# EAGLE library part 2516-AIR (library chuni)
3M (TM) Pak 100 4-Wall Header Source: 3M
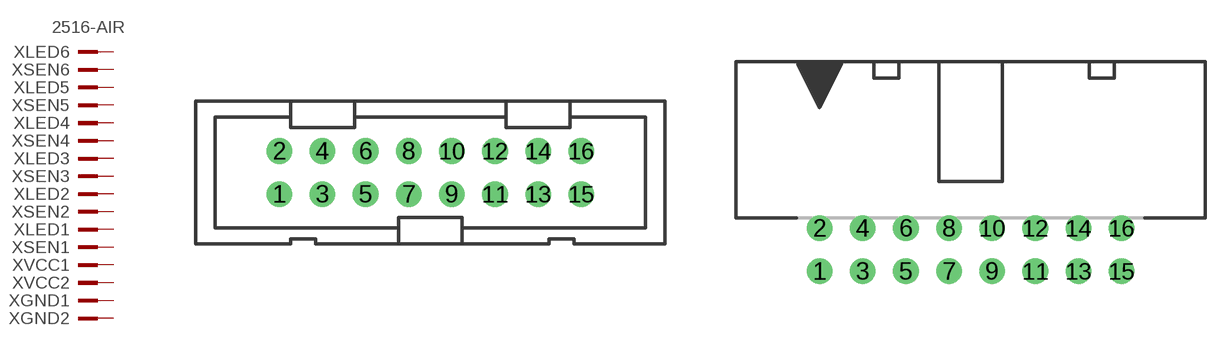
[diagram p1: symbol with the pads of PAK100/2500-16; footprints PAK100/2500-16, PAK100/2500-5-16]

Designator prefix X; gates LED6=PINV SEN6=PIN LED5=PIN SEN5=PIN LED4=PIN SEN4=PIN LED3=PIN SEN3=PIN LED2=PIN SEN2=PIN LED1=PIN SEN1=PIN VCC1=PIN VCC2=PIN GND1=PIN GND2=PIN

## 2516-AIR (OC_FARNELL: unknown; OC_NEWARK: unknown)  [PAK100/2500-16]
1  LED6:KL  pas
2  SEN6:KL  pas
3  LED5:KL  pas
4  SEN5:KL  pas
5  LED4:KL  pas
6  SEN4:KL  pas
7  LED3:KL  pas
8  SEN3:KL  pas
9  LED2:KL  pas
10  SEN2:KL  pas
11  LED1:KL  pas
12  SEN1:KL  pas
13  VCC1:KL  pas
14  VCC2:KL  pas
15  GND1:KL  pas
16  GND2:KL  pas

## 2516-AIR5 (MPN: D2516-5002-AR; OC_FARNELL: 9838376; OC_NEWARK: 12P7055)  [PAK100/2500-5-16]
Pads as for PAK100/2500-16

## Footprint PAK100/2500-16 (pad centres in mm)
3M (TM) Pak 100 4-Wall Header Straight Source: 3M
drill 1 pad 1.422: 1 -8.89,-1.27; 2 -8.89,1.27; 3 -6.35,-1.27; 4 -6.35,1.27; 5 -3.81,-1.27; 6 -3.81,1.27; 7 -1.27,-1.27; 8 -1.27,1.27; 9 1.27,-1.27; 10 1.27,1.27; 11 3.81,-1.27; 12 3.81,1.27; 13 6.35,-1.27; 14 6.35,1.27; 15 8.89,-1.27; 16 8.89,1.27

## Footprint PAK100/2500-5-16 (pad centres in mm)
3M (TM) Pak 100 4-Wall Header Right Angle Source: 3M
drill 1 pad 1.422: 1 -8.89,-1.27; 2 -8.89,1.27; 3 -6.35,-1.27; 4 -6.35,1.27; 5 -3.81,-1.27; 6 -3.81,1.27; 7 -1.27,-1.27; 8 -1.27,1.27; 9 1.27,-1.27; 10 1.27,1.27; 11 3.81,-1.27; 12 3.81,1.27; 13 6.35,-1.27; 14 6.35,1.27; 15 8.89,-1.27; 16 8.89,1.27